# Altium footprint library Fuente.PcbLib: 7 footprints
Each footprint in its own frame and in the unit in brackets; x right, y up, seen from the top. Pads: shape width x height; smd on the part's side, far side on the other; paste and mask are expansions set on the pad; w line width, h text height; cw(c..) or ccw(c..) is an arc to the next point about the centre after c.
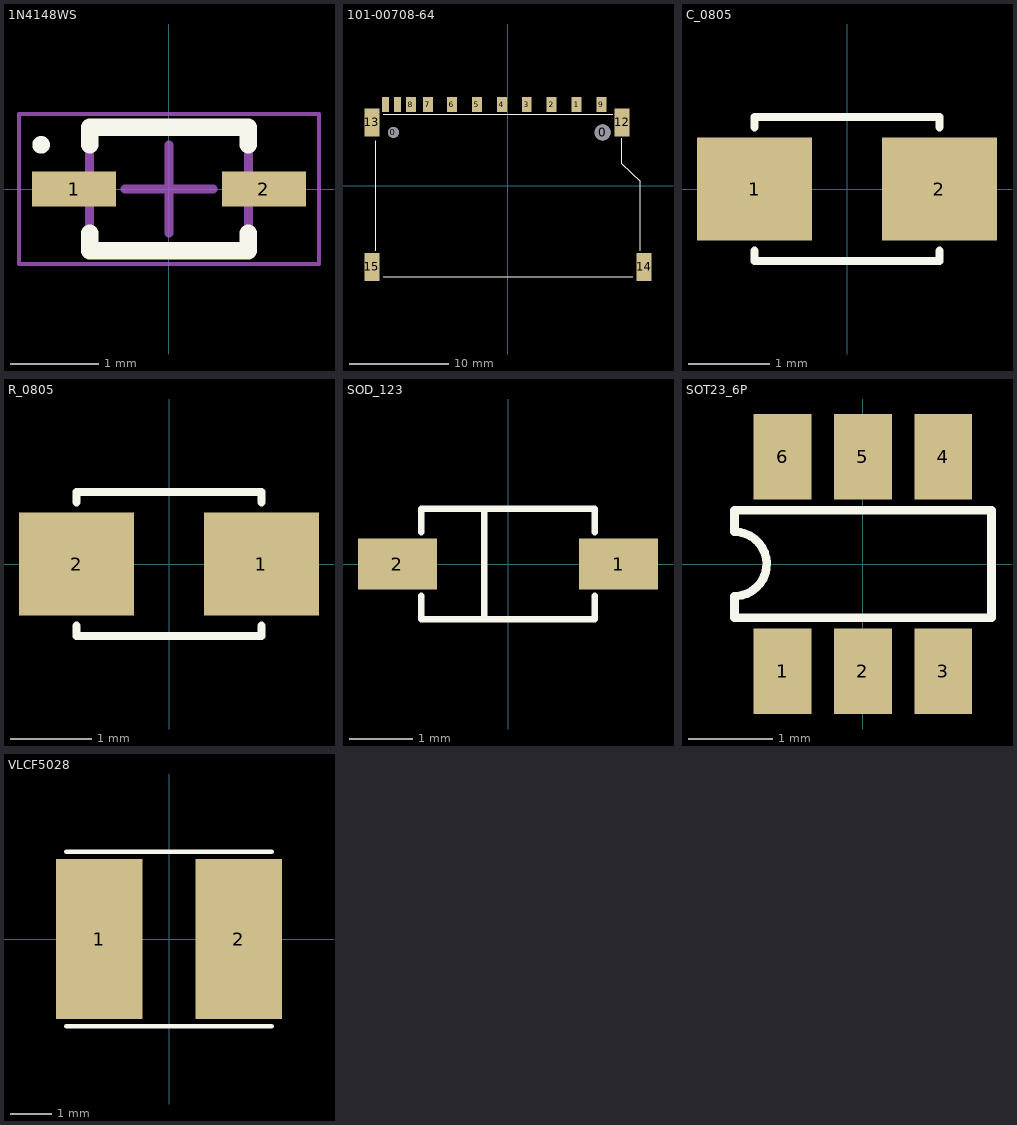
[diagram p0: the footprints below, top view; thin cyan lines are the x and y axes]

## 1N4148WS [mm] "SODFL, 2-Leads, Body 1.25x2.50mm, IPC Medium Density"
height 0.9
pads (2):
  rect 0.95x0.4 smd: 1(-1.075,0) 2(1.075,0)
Top Overlay:
  circle w0.1: c-1.45,0.5 r0.05
  lines w0.2: -0.9,-0.5 -0.9,-0.7 0.9,-0.7 0.9,-0.5 ; -0.9,0.5 -0.9,0.7 0.9,0.7 0.9,0.5
Mechanical 13:
  lines w0.1: -0.9,-0.675 0.9,-0.675 0.9,0.675 -0.9,0.675 -0.9,-0.675
Mechanical 15:
  lines w0.05: -1.7,-0.85 1.7,-0.85 1.7,0.85 -1.7,0.85 -1.7,-0.85
  lines w0.1: -0.5,0 0.5,0 ; 0,-0.5 0,0.5
3D body: height 0.9, standoff 0, extent -0.9,-0.675 0.9,0.675

## 101-00708-64 [mm]
pads (17):
  round 1.1 hole 1.1 unplated: 0(-11.5,5.35)
  round 1.6 hole 1.6 unplated: 0(9.5,5.35)
  rect 1x1.5 smd: 1(6.88,8.15) 2(4.38,8.15) 3(1.88,8.15) 4(-0.62,8.15) 5(-3.12,8.15) 6(-5.62,8.15) 7(-8.04,8.15) 8(-9.74,8.15) 9(9.38,8.15)
  rect 0.7x1.5 smd: 10(-11.08,8.15) 11(-12.28,8.15)
  rect 1.5x2.8 smd: 12(11.45,6.35) 13(-13.65,6.35) 14(13.65,-8.15) 15(-13.65,-8.15)
Top Overlay:
  lines w0.102: -13.26,-6.5 -13.26,4.5 ; -12.5,-9.15 12.5,-9.15 ; -12.5,7.2 10.5,7.2 ; 11.4,4.75 11.4,2.2 13.26,0.45 13.26,-6.5

## C_0805 [mil]
height 98.43
pads (2):
  rect 56x50 smd: 1(-45,0) 2(45,0)
Top Overlay:
  lines w4: -45,-30 -45,-35 45,-35 45,-30 ; -45,30 -45,35 45,35 45,30

## R_0805 [mil]
height 98.43
pads (2):
  rect 56x50 smd: 1(45,0) 2(-45,0)
Top Overlay:
  lines w4: -45,-30 -45,-35 45,-35 45,-30 ; -45,30 -45,35 45,35 45,30

## SOD_123 [mm]
height 8.509
pads (2):
  rect 1.25x0.8 smd: 1(1.75,0) 2(-1.75,0)
Top Overlay:
  lines w0.102: -1.375,-0.5 -1.375,-0.875 1.375,-0.875 1.375,-0.5 ; -1.375,0.5 -1.375,0.875 1.375,0.875 1.375,0.5 ; -0.375,-0.875 -0.375,0.875

## SOT23_6P [mil]
height 335
pads (6):
  rect 27x40 smd: 1(-37.5,-50) 2(0,-50) 3(37.5,-50) 4(37.5,50) 5(0,50) 6(-37.5,50)
Top Overlay:
  lines w4: -60,25 60,25 60,-25 -59.94,-25 -59.94,-14.97 ; -59.94,14.99 -59.94,25 ; -59.89,14.99 cw(c-59.89,0) -59.06,-14.97

## VLCF5028 [mm]
height 1.2
pads (2):
  rect 2.1x3.9 smd: 1(-1.7,0) 2(1.7,0)
Top Overlay:
  lines w0.102: -2.5,-2.125 2.5,-2.125 ; -2.5,2.125 2.5,2.125